# Altium footprint library SG__PCB_DIP_SIP.PcbLib: 17 footprints (part 2 of 2)
Each footprint in its own frame and in the unit in brackets; x right, y up, seen from the top. Pads: shape width x height; smd on the part's side, far side on the other; paste and mask are expansions set on the pad; w line width, h text height; cw(c..) or ccw(c..) is an arc to the next point about the centre after c.
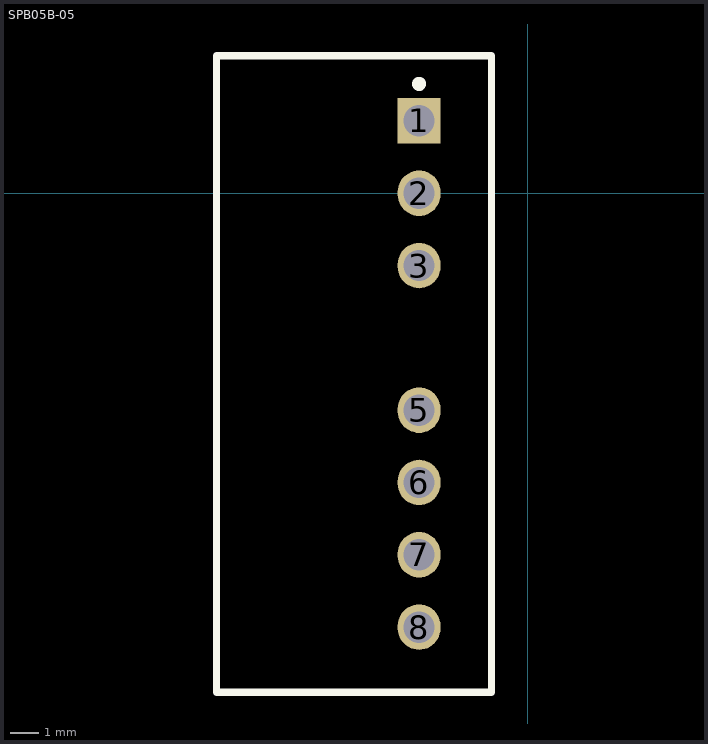
[diagram p1: the footprint, top view; thin cyan lines are the x and y axes]

## SPB05B-05 [mm]
height 5.08
pads (7):
  rect 1.5x1.6 hole 1.1 mask+0.05: 1(-3.81,2.54)
  oval 1.5x1.6 hole 1.1 mask+0.05: 2(-3.81,0) 3(-3.81,-2.54) 5(-3.81,-7.62) 6(-3.81,-10.16) 7(-3.81,-12.7) 8(-3.81,-15.24)
Top Overlay:
  circle w0.25: c-3.81,3.84 r0.125
  lines w0.254: -10.922,-17.526 -10.922,4.826 -1.27,4.826 -1.27,-17.526 -10.922,-17.526
3D body "SIP-8-DCDC.stp": height 12.5, standoff -3.6, extent -10.922,-17.35 -1.422,4.65